# Altium footprint library PCB1.PcbLib: 10 footprints
Each footprint in its own frame and in the unit in brackets; x right, y up, seen from the top. Pads: shape width x height; smd on the part's side, far side on the other; paste and mask are expansions set on the pad; w line width, h text height; cw(c..) or ccw(c..) is an arc to the next point about the centre after c.
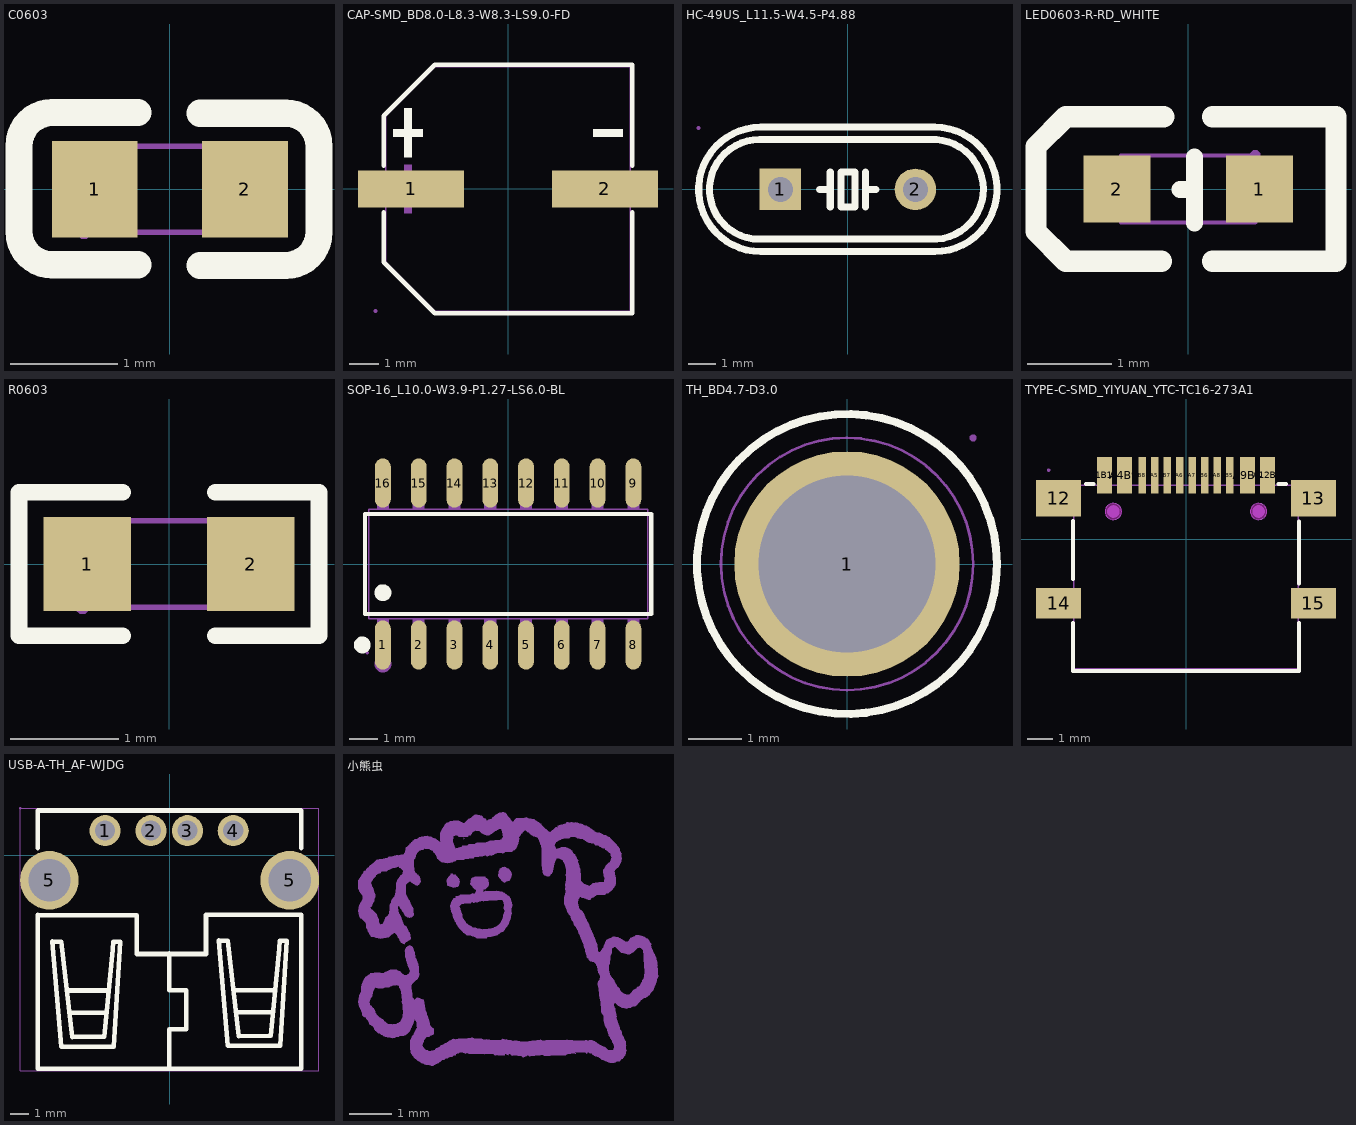
[diagram p0: the footprints below, top view; thin cyan lines are the x and y axes]

## C0603 [mm]
pads (2):
  rect 0.8x0.9 smd paste+0 mask+0.051: 1(-0.7,0) 2(0.7,0)
Top Overlay:
  lines w0.254: -0.296,-0.704 -1.096,-0.704 cw(c-1.096,-0.394) -1.406,-0.394 -1.405,0.406 cw(c-1.096,0.406) -1.096,0.715 -0.296,0.715 ; 0.28,-0.71 1.08,-0.71 ccw(c1.08,-0.4) 1.39,-0.4 1.39,0.4 ccw(c1.08,0.4) 1.08,0.71 0.28,0.71
Mechanical 15:
  region: -0.74,-0.4 -0.74,-0.375 -0.775,-0.34 -0.825,-0.34 -0.86,-0.375 -0.86,-0.4 -0.86,-0.425 -0.825,-0.46 -0.775,-0.46 -0.74,-0.425 -0.74,-0.4
  region: -0.8,-0.4 -0.8,0.4 -0.5,0.4 -0.5,-0.4
  region: 0.8,-0.4 0.8,0.4 0.5,0.4 0.5,-0.4
  lines w0.051: -0.8,-0.4 -0.8,0.4 0.8,0.4 0.8,-0.4 -0.8,-0.4
3D body "C0603.STEP": height 1, standoff 0.2, extent -0.799,-0.398 0.801,0.402
3D body: height 0.25, standoff 0, extent -1.778,1.016 -1.778,1.016

## CAP-SMD_BD8.0-L8.3-W8.3-LS9.0-FD [mm]
pads (2):
  rect 3.61x1.26 smd mask+0.051: 1(-3.295,0) 2(3.295,0)
Top Overlay:
  region: -3.528,1.079 -3.528,2.739 -3.279,2.739 -3.279,1.079
  region: -3.901,1.784 -3.901,2.033 -2.905,2.033 -2.905,1.784
  region: 3.901,1.784 3.901,2.033 2.905,2.033 2.905,1.784
  lines w0.152: -4.226,-0.782 -4.226,-2.49 -2.49,-4.226 4.226,-4.226 4.226,-0.782 ; -4.226,0.782 -4.226,2.49 -2.49,4.226 4.226,4.226 4.226,0.782
Mechanical 6:
  region: -3.528,-0.83 -3.528,0.83 -3.279,0.83 -3.279,-0.83
  region: -3.901,-0.125 -3.901,0.124 -2.905,0.124 -2.905,-0.125
  region: 3.901,-0.125 3.901,0.124 2.905,0.124 2.905,-0.125
Mechanical 15:
  region: -4.56,-4.15 -4.56,-4.175 -4.525,-4.21 -4.475,-4.21 -4.44,-4.175 -4.44,-4.15 -4.44,-4.125 -4.475,-4.09 -4.525,-4.09 -4.56,-4.125 -4.56,-4.15
  region: -1.6,-0.35 -4.5,-0.35 -4.5,0.35 -1.6,0.35
  region: 4.5,-0.35 1.6,-0.35 1.6,0.35 4.5,0.35
  lines w0.051: -4.15,-2.49 -4.15,2.49 -2.49,4.15 4.15,4.15 4.15,-4.15 -2.49,-4.15 -4.15,-2.49
3D body "CAP_SMD.STEP": height 8.55, standoff 1.6, extent -3.992,-4.109 5.008,4.192

## HC-49US_L11.5-W4.5-P4.88 [mm]
pads (2):
  rect 1.5x1.5 hole 0.9 mask+0.051: 1(-2.44,0)
  round 1.5 hole 0.9 mask+0.051: 2(2.44,0)
Top Overlay:
  lines w0.254: -3.2,1.8 3.2,1.8 cw(c3.093,0) 3,-1.801 ; -3.2,1.801 ccw(c-3.2,0) -3.2,-1.8 3,-1.8 ; -1.016,0 -0.635,0 ; -0.635,-0.635 -0.635,0 ; -0.635,0.635 -0.635,0 ; 0.635,-0.635 0.635,0 ; 0.635,0.635 0.635,0 ; 1.016,0 0.635,0 ; -3.15,-2.25 cw(c-3.142,0) -3.15,2.25 3.15,2.25 cw(c3.142,0) 3.15,-2.25 -3.15,-2.25 ; -0.254,-0.635 -0.254,0.635 0.254,0.635 0.254,-0.635 -0.254,-0.635
Mechanical 15:
  region: -2.225,0 -2.225,-0.043 -2.258,-0.122 -2.318,-0.182 -2.397,-0.215 -2.483,-0.215 -2.562,-0.182 -2.622,-0.122 -2.655,-0.043 -2.655,0 -2.655,0.043 -2.622,0.122 -2.562,0.182 -2.483,0.215 -2.397,0.215 -2.318,0.182 -2.258,0.122 -2.225,0.043 -2.225,0
  region: 2.655,0 2.655,-0.043 2.622,-0.122 2.562,-0.182 2.483,-0.215 2.397,-0.215 2.318,-0.182 2.258,-0.122 2.225,-0.043 2.225,0 2.225,0.043 2.258,0.122 2.318,0.182 2.397,0.215 2.483,0.215 2.562,0.182 2.622,0.122 2.655,0.043 2.655,0
  region: -5.332,2.22 -5.332,2.195 -5.368,2.16 -5.417,2.16 -5.452,2.195 -5.452,2.22 -5.452,2.245 -5.417,2.28 -5.368,2.28 -5.332,2.245 -5.332,2.22
  lines w0.051: -5.392,0 cw(c-3.142,0) -3.15,2.25 3.142,2.25 cw(c3.142,0) 5.392,0 cw(c3.142,0) 3.142,-2.25 -3.15,-2.25 cw(c-3.142,0) -5.392,0
3D body "X1.STEP": height 2.5, standoff -4.5, extent -5.566,-2.26 5.434,2.24

## LED0603-R-RD_WHITE [mm]
pads (2):
  rect 0.8x0.8 smd mask+0.051: 1(0.851,0) 2(-0.851,0)
Top Overlay:
  lines w0.203: -0.099,-0.008 0.076,-0.008 ; 0.076,-0.406 0.076,0.381
  lines w0.254: -0.318,-0.864 -1.46,-0.864 -1.816,-0.508 -1.816,0.508 -1.46,0.864 -0.292,0.864 ; 0.292,-0.864 1.765,-0.864 1.765,0.864 0.292,0.864
Mechanical 6:
  region: -1.193,0.05 -0.533,0.05 -0.533,-0.103 -1.193,-0.103
  region: 0.936,-0.275 0.936,0.385 1.088,0.385 1.088,-0.275
Mechanical 15:
  region: 0.86,0.4 0.86,0.425 0.825,0.46 0.775,0.46 0.74,0.425 0.74,0.4 0.74,0.375 0.775,0.34 0.825,0.34 0.86,0.375 0.86,0.4
  region: -0.8,-0.4 -0.8,0.4 -0.5,0.4 -0.5,-0.4
  region: 0.8,0.4 0.8,-0.4 0.5,-0.4 0.5,0.4
  lines w0.051: -0.8,-0.4 0.8,-0.4 0.8,0.4 -0.8,0.4 -0.8,-0.4
3D body "LED.STEP": height 0.91, standoff 0.1, extent -0.734,-0.406 0.886,0.404
3D body: height 0.25, standoff 0, extent 2.159,-1.143 2.159,-1.143

## R0603 [mm]
pads (2):
  rect 0.806x0.864 smd paste-100 mask+0.051: 1(-0.753,0) 2(0.753,0)
Top Overlay:
  lines w0.152: -0.426,-0.661 -1.385,-0.661 -1.385,0.661 -0.426,0.661 ; 0.426,-0.661 1.385,-0.661 1.385,0.661 0.426,0.661
Top Paste:
  region: -0.355,0.4 -0.355,0.172 -0.735,0.172 -0.735,-0.158 -0.355,-0.158 -0.355,-0.4 -0.405,-0.45 -1.195,-0.45 -1.245,-0.4 -1.245,0.4 -1.195,0.45 -0.405,0.45
  region: 1.195,0.45 0.395,0.45 0.345,0.4 0.345,0.172 0.715,0.172 0.715,-0.158 0.345,-0.158 0.345,-0.4 0.395,-0.45 1.195,-0.45 1.245,-0.4 1.245,0.4
Mechanical 15:
  region: 0.8,-0.4 0.8,0.4 0.5,0.4 0.5,-0.4
  region: -0.8,-0.4 -0.8,0.4 -0.5,0.4 -0.5,-0.4
  region: -0.86,-0.4 -0.86,-0.425 -0.825,-0.46 -0.775,-0.46 -0.74,-0.425 -0.74,-0.4 -0.74,-0.375 -0.775,-0.34 -0.825,-0.34 -0.86,-0.375 -0.86,-0.4
  lines w0.051: -0.8,-0.4 0.8,-0.4 0.8,0.4 -0.8,0.4 -0.8,-0.4
3D body "R0603.STEP": height 0.55, standoff 0.1, extent -0.813,-0.404 0.807,0.406

## SOP-16_L10.0-W3.9-P1.27-LS6.0-BL [mm]
pads (16):
  oval 0.56x1.745 smd mask+0.051: 1(-4.445,-2.872) 2(-3.175,-2.872) 3(-1.905,-2.872) 4(-0.635,-2.872) 5(0.635,-2.872) 6(1.905,-2.872) 7(3.175,-2.872) 8(4.445,-2.872) 9(4.445,2.872) 10(3.175,2.872) 11(1.905,2.872) 12(0.635,2.872) 13(-0.635,2.872) 14(-1.905,2.872) 15(-3.175,2.872) 16(-4.445,2.872)
Top Overlay:
  circle w0.3: c-5.177,-2.872 r0.15
  circle w0.3: c-4.445,-1.019 r0.15
  lines w0.152: -5.076,-1.771 5.076,-1.771 5.076,1.771 -5.076,1.771 -5.076,-1.771
Mechanical 6:
  circle w0.3: c-4.445,-3.55 r0.15
Mechanical 15:
  drawing of 37 lines, arcs and shapes, not listed
3D body "SOP_16.STEP": height -1, standoff -2.7, extent -5.004,-3.042 4.996,3.064

## TH_BD4.7-D3.0 [mm]
pads (1):
  round 4.2 hole 3.3 paste+0 mask+0.05: 1(0,0)
Top Overlay:
  circle w0.15: c0,0 r2.794
Top Paste:
  region: 1.83,-0.384 2.511,-0.38 2.469,-0.595 2.395,-0.855 2.313,-1.049 2.223,-1.232 2.098,-1.43 1.972,-1.607 1.812,-1.779 1.633,-1.943 1.449,-2.084 1.218,-2.229 1.02,-2.326 0.807,-2.407 0.517,-2.493 0.235,-2.534 0.149,-2.534 0.151,-1.866 0.517,-1.802 0.771,-1.708 1.119,-1.508 1.409,-1.236 1.675,-0.842
  region: -0.384,-1.83 -0.38,-2.511 -0.595,-2.469 -0.855,-2.395 -1.049,-2.313 -1.232,-2.223 -1.43,-2.098 -1.607,-1.972 -1.779,-1.812 -1.943,-1.633 -2.084,-1.449 -2.229,-1.218 -2.326,-1.02 -2.407,-0.807 -2.493,-0.517 -2.534,-0.235 -2.534,-0.149 -1.866,-0.151 -1.802,-0.517 -1.708,-0.771 -1.508,-1.119 -1.236,-1.409 -0.842,-1.675
  region: -1.83,0.384 -2.511,0.38 -2.469,0.595 -2.395,0.855 -2.313,1.049 -2.223,1.232 -2.098,1.43 -1.972,1.607 -1.812,1.779 -1.633,1.943 -1.449,2.084 -1.218,2.229 -1.02,2.326 -0.807,2.407 -0.517,2.493 -0.235,2.534 -0.149,2.534 -0.151,1.866 -0.517,1.802 -0.771,1.708 -1.119,1.508 -1.409,1.236 -1.675,0.842
  region: 0.384,1.83 0.38,2.511 0.595,2.469 0.855,2.395 1.049,2.313 1.232,2.223 1.43,2.098 1.607,1.972 1.779,1.812 1.943,1.633 2.084,1.449 2.229,1.218 2.326,1.02 2.407,0.807 2.493,0.517 2.534,0.235 2.534,0.149 1.866,0.151 1.802,0.517 1.708,0.771 1.508,1.119 1.236,1.409 0.842,1.675
Mechanical 15:
  region: 1.5,0 1.5,0.148 1.442,0.438 1.329,0.711 1.165,0.956 0.956,1.165 0.711,1.329 0.438,1.442 0.148,1.5 -0.148,1.5 -0.438,1.442 -0.711,1.329 -0.956,1.165 -1.165,0.956 -1.329,0.711 -1.442,0.438 -1.5,0.148 -1.5,0 -1.5,-0.148 -1.442,-0.438 -1.329,-0.711 -1.165,-0.956 -0.956,-1.165 -0.711,-1.329 -0.438,-1.442 -0.148,-1.5 0.148,-1.5 0.438,-1.442 0.711,-1.329 0.956,-1.165 1.165,-0.956 1.329,-0.711 1.442,-0.438 1.5,-0.148 1.5,0
  region: 2.41,2.351 2.41,2.375 2.375,2.41 2.325,2.41 2.29,2.375 2.29,2.351 2.29,2.326 2.325,2.291 2.375,2.291 2.41,2.326 2.41,2.351
  lines w0.051: 0,2.351 cw(c0,0.001) 2.35,0.001 ; 0,2.351 -0.009,2.351 ccw(c-0.009,0.013) -2.346,0.013 -2.346,0 -2.346,-0.004 ccw(c0,-0.004) 0,-2.35 ccw(c0,0.001) 2.35,0.001 ; 0,2.351 0,2.351 ; 2.35,0.001 2.35,0.001
3D body "M3.STEP": height 4, standoff -12, extent -3.153,-2.717 3.152,2.784

## TYPE-C-SMD_YIYUAN_YTC-TC16-273A1 [mm]
pads (16):
  rect 1.8x1.45 smd paste+0 mask+0.05: 12(-5.07,1.632) 13(5.07,1.632)
  rect 1.8x1.2 smd paste+0 mask+0.05: 14(-5.07,-2.548) 15(5.07,-2.548)
  rect 0.6x1.45 smd paste+0 mask+0.05: A1B12(-3.25,2.548) A4B9(-2.45,2.548) A9B4(2.45,2.548) A12B1(3.25,2.548)
  rect 0.3x1.45 smd paste+0 mask+0.05: A5(-1.25,2.548) A6(-0.25,2.548) A7(0.25,2.548) A8(1.25,2.548) B5(1.75,2.548) B6(0.75,2.548) B7(-0.75,2.548) B8(-1.75,2.548)
Top Overlay:
  lines w0.15: -4.5,-3.768 -4.5,-3.327 ; -4.5,-3.702 -4.5,-5.248 4.5,-5.248 4.5,-3.702 4.5,-3.327 ; -4.5,-1.593 -4.5,0.252 -4.5,0.728 ; -3.991,2.199 -3.679,2.199 ; 3.679,2.199 3.991,2.199 ; 4.5,-1.769 4.5,-1.593 4.5,0.252 4.5,0.699
Keep-Out Layer:
  board cut-out: -2.89,1.427 -2.955,1.427 -3.074,1.377 -3.165,1.286 -3.215,1.166 -3.215,1.037 -3.165,0.918 -3.074,0.826 -2.955,0.777 -2.89,0.777 -2.825,0.777 -2.706,0.826 -2.614,0.918 -2.565,1.037 -2.565,1.166 -2.614,1.286 -2.706,1.377 -2.825,1.427 -2.89,1.427
  board cut-out: 2.89,1.427 2.825,1.427 2.706,1.378 2.615,1.286 2.565,1.167 2.565,1.038 2.615,0.918 2.706,0.827 2.825,0.777 2.89,0.777 2.955,0.777 3.074,0.827 3.166,0.918 3.215,1.038 3.215,1.167 3.166,1.286 3.074,1.378 2.955,1.427 2.89,1.427
Mechanical 1:
  circle w0.005: c-2.89,1.102 r0.325
  circle w0.005: c2.89,1.102 r0.325
Mechanical 6:
  circle w0.25: c-2.89,1.102 r0.125
  circle w0.25: c2.89,1.102 r0.125
Mechanical 15:
  region: -5.47,2.811 -5.495,2.811 -5.53,2.776 -5.53,2.726 -5.495,2.691 -5.47,2.691 -5.445,2.691 -5.41,2.726 -5.41,2.776 -5.445,2.811 -5.47,2.811
  region: 1.65,2.751 1.85,2.751 1.85,1.851 1.65,1.851
  region: 1.15,2.751 1.35,2.751 1.35,1.851 1.15,1.851
  region: 0.65,2.751 0.85,2.751 0.85,1.851 0.65,1.851
  region: 0.15,2.751 0.35,2.751 0.35,1.851 0.15,1.851
  region: -0.35,2.751 -0.15,2.751 -0.15,1.851 -0.35,1.851
  region: -0.85,2.751 -0.65,2.751 -0.65,1.851 -0.85,1.851
  region: -1.35,2.751 -1.15,2.751 -1.15,1.851 -1.35,1.851
  region: -1.85,2.751 -1.65,2.751 -1.65,1.851 -1.85,1.851
  region: 2.25,2.751 2.65,2.751 2.65,1.851 2.25,1.851
  region: 3.05,2.751 3.45,2.751 3.45,1.851 3.05,1.851
  region: -2.65,2.751 -2.25,2.751 -2.25,1.851 -2.65,1.851
  region: -3.45,2.751 -3.05,2.751 -3.05,1.851 -3.45,1.851
  region: 4.27,2.157 5.47,2.157 5.47,1.107 4.27,1.107
  region: -5.47,2.157 -4.27,2.157 -4.27,1.107 -5.47,1.107
  region: 4.27,-2.148 5.47,-2.148 5.47,-2.948 4.27,-2.948
  region: -5.47,-2.148 -4.27,-2.148 -4.27,-2.948 -5.47,-2.948
  lines w0.051: -4.47,-5.149 -4.47,2.151 4.47,2.151 4.47,-5.149 -4.47,-5.149
3D body "TYPEC_SMD.STEP": height 3.79, standoff 0, extent -5.654,-5.024 5.696,2.876

## USB-A-TH_AF-WJDG [mm]
pads (6):
  round 1.7 hole 1.1 mask+0.051: 1(-3.52,1.355) 2(-1.019,1.355) 3(0.98,1.355) 4(3.48,1.355)
  round 3.2 hole 2.3 mask+0.051: 5(-6.57,-1.355) 5(6.57,-1.355)
Top Overlay:
  lines w0.254: -7.199,-3.236 -7.199,-11.655 7.201,-11.655 7.201,-3.236 ; -7.199,0.404 -7.199,2.46 7.201,2.46 7.201,0.404 ; -7.19,-3.266 -1.79,-3.266 -1.79,-5.385 1.99,-5.385 1.99,-3.245 7.19,-3.245 ; -5.609,-7.385 -3.349,-7.385 ; -5.469,-8.595 -3.439,-8.595 ; -0.01,-11.525 -0.01,-9.495 0.91,-9.495 0.91,-7.375 -0.01,-7.375 -0.01,-5.355 ; 3.49,-7.366 5.75,-7.366 ; 3.63,-8.576 5.66,-8.576 ; -6.42,-4.706 -5.925,-10.441 -3.041,-10.452 -2.691,-4.709 -3.072,-4.709 -3.102,-5.139 -3.576,-9.917 -5.325,-9.928 -5.401,-9.25 -5.911,-4.709 -6.42,-4.706 ; 2.682,-4.652 3.177,-10.387 6.06,-10.398 6.41,-4.655 6.03,-4.655 6,-5.085 5.526,-9.864 3.776,-9.874 3.701,-9.196 3.19,-4.656 2.682,-4.652
Mechanical 15:
  drawing of 11 lines, arcs and shapes, not listed
3D body "USBA.STEP": height 8.81, standoff -2.7, extent -7.747,-12.03 7.753,1.97

## 小熊虫 [mm]
Bottom Overlay:
  drawing of 5 lines, arcs and shapes, not listed